# EAGLE library part 5X7_DOT_LED_MATRIX (library led)
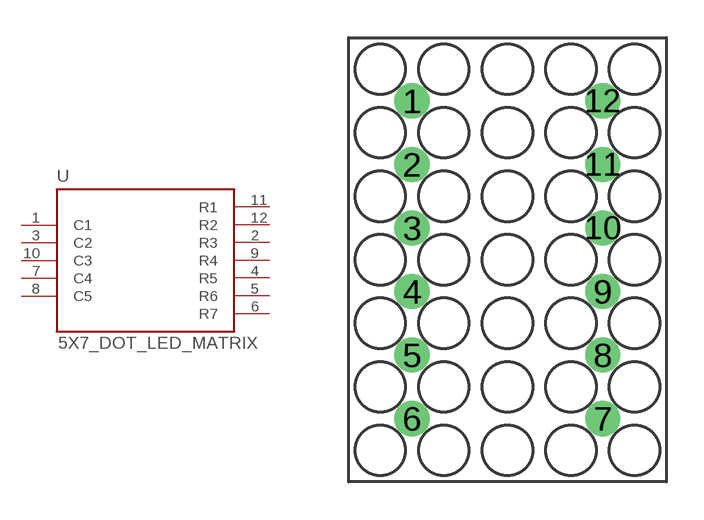
[diagram p0: symbol with the pads of 5X7_DOT_LED_MATRIX; footprint 5X7_DOT_LED_MATRIX]

Designator prefix -

## 5X7_DOT_LED_MATRIX  [5X7_DOT_LED_MATRIX]
1  C1
2  R3
3  C2
4  R5
5  R6
6  R7
7  C4
8  C5
9  R4
10  C3
11  R1
12  R2

## Footprint 5X7_DOT_LED_MATRIX (pad centres in mm)
drill 0.9: 1 -3.81,6.35; 2 -3.81,3.81; 3 -3.81,1.27; 4 -3.81,-1.27; 5 -3.81,-3.81; 6 -3.81,-6.35; 7 3.81,-6.35; 8 3.81,-3.81; 9 3.81,-1.27; 10 3.81,1.27; 11 3.81,3.81; 12 3.81,6.35